# EAGLE library part AD628ARZ (library HEXABITZ_ICs)
High Common-Mode Voltage,Programmable Gain Difference Amplifier
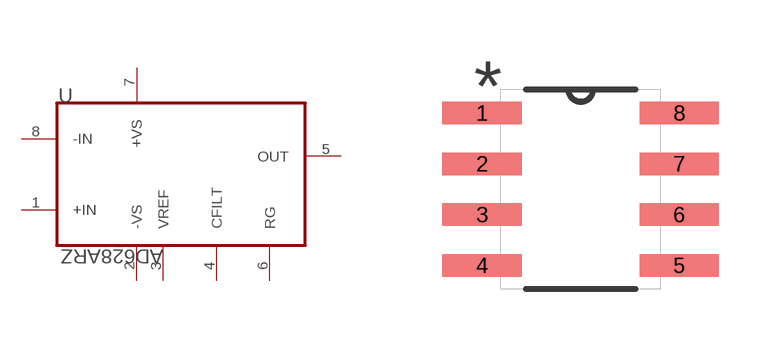
[diagram p18: symbol with the pads of SOIC127P600X175-8N; footprint SOIC127P600X175-8N]

Designator prefix U

## AD628ARZ (DESCRIPTION: Operational amplifier; 600kHz; 2.25÷36VDC; Channels: 1;; MFN: Analog Devices; MPN: AD628ARZ; OCTOPART_URL: https://octopart.com/ad628arz-analog+devices-410882)  [SOIC127P600X175-8N]
1  +IN  in
2  -VS  pwr
3  VREF  pas
4  CFILT  pas
5  OUT  out
6  RG  pas
7  +VS  pwr
8  -IN  in

## Footprint SOIC127P600X175-8N (pad centres in mm)
smd 1.981 x 0.559: 1 -2.464,1.905; 2 -2.464,0.635; 3 -2.464,-0.635; 4 -2.464,-1.905; 5 2.464,-1.905; 6 2.464,-0.635; 7 2.464,0.635; 8 2.464,1.905